# EAGLE library part POWER_BOARD (library glacsweb)
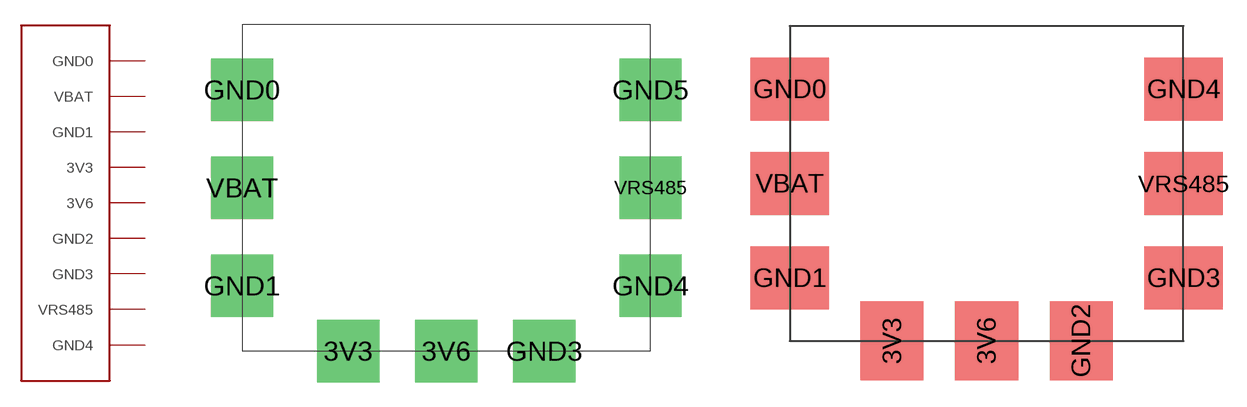
[diagram p14: symbol with the pads of POWER_BOARD; footprints POWER_BOARD, POWER_BOARD_PAD]

Designator prefix -

## POWER_BOARD  [POWER_BOARD]
3V3  3V3
3V6  3V6
GND0  GND0
GND1  GND1
GND3  GND2
GND4  GND3
GND5  GND4
VBAT  VBAT
VRS485  VRS485

## POWER_BOARD'_PAD'  [POWER_BOARD_PAD]
3V3  3V3
3V6  3V6
GND0  GND0
GND1  GND1
GND2  GND2
GND3  GND3
GND4  GND4
VBAT  VBAT
VRS485  VRS485

## Footprint POWER_BOARD (pad centres in mm)
drill 2 pad 3.81 square: 3V3 -6,-10; 3V6 0,-10; GND0 -12.5,6; GND1 -12.5,-6; GND3 6,-10; GND4 12.5,-6; GND5 12.5,6; VBAT -12.5,0; VRS485 12.5,0

## Footprint POWER_BOARD_PAD (pad centres in mm)
smd 4 x 5: 3V3 -6,-10; 3V6 0,-10; GND2 6,-10
smd 5 x 4: GND0 -12.5,6; GND1 -12.5,-6; GND3 12.5,-6; GND4 12.5,6; VBAT -12.5,0; VRS485 12.5,0